# Altium footprint library SE2D v1.0.PcbLib: 3 footprints
Each footprint in its own frame and in the unit in brackets; x right, y up, seen from the top. Pads: shape width x height; smd on the part's side, far side on the other; paste and mask are expansions set on the pad; w line width, h text height; cw(c..) or ccw(c..) is an arc to the next point about the centre after c.
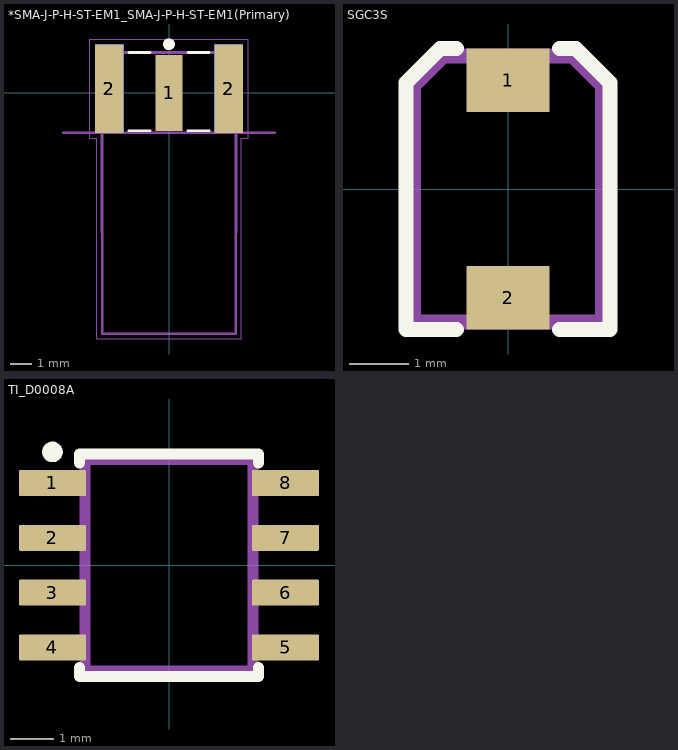
[diagram p0: the footprints below, top view; thin cyan lines are the x and y axes]

## *SMA-J-P-H-ST-EM1_SMA-J-P-H-ST-EM1(Primary) [mm]
pads (5):
  rect 1.27x3.6 smd: 1(0,0)
  rect 1.35x4.2 smd: 2(-2.825,0.2) 2(2.825,0.2)
  rect 1.35x4.2 smd far side: 2(-2.825,0.2) 2(2.825,0.2)
Top Overlay:
  circle w0.28: c0,2.3 r0.14
  lines w0.127: -1.9,-1.8 -0.9,-1.8 ; -1.9,1.91 -0.9,1.91 ; 0.9,-1.8 1.9,-1.8 ; 0.9,1.91 1.9,1.91
Component Bodies:
  lines w0.127: -3.175,-1.9 -3.165,-11.42 ; -3.175,-1.9 -5,-1.9 -3.175,-1.9 ; -3.175,-1.9 3.175,-1.9 ; -3.175,-1.9 -3.175,1.91 ; -3.175,-1.9 -3.165,-11.42 ; -3.175,-1.9 3.175,-1.9 ; -3.175,-1.9 -3.175,1.91 ; -3.175,1.91 3.175,1.91 ; -3.175,1.91 3.175,1.91 ; -3.165,-11.42 3.165,-11.42 ; -3.165,-11.42 3.165,-11.42 ; 3.165,-11.42 3.175,-1.9 ; 3.165,-11.42 3.175,-1.9 ; 3.175,-1.9 5,-1.9 3.175,-1.9 ; 3.175,-1.9 3.175,1.91 ; 3.175,-1.9 3.175,1.91
  text "PCB EDGE" at 4.304,-1.952 h1.88
  text "BOARD THICKNESS: 1.57 MM" at 4.101,1.15 h1.88
  text "PCB EDGE" at 4.304,-1.952 h1.88
  text "BOARD THICKNESS: 1.57 MM" at 4.101,1.15 h1.88
Courtyard:
  lines w0.05: -3.75,-2.15 -3.425,-2.15 -3.425,-11.67 3.425,-11.67 3.425,-2.15 3.75,-2.15 3.75,2.55 -3.75,2.55 -3.75,-2.15
3D body "SMA-J-P-H-ST-EM1.stp": height 3.77, standoff -2.58, extent -3.2,-11.445 3.15,1.885

## SGC3S [mm] "Sprague-Goodman SGC3S Series Trimmer Cap"
height 1.5
pads (2):
  rect 1.4x1.075 smd: 1(0,1.837) 2(0,-1.837)
Top Overlay:
  lines w0.254: -0.873,-2.377 -1.727,-2.377 -1.727,1.798 -1.148,2.377 -0.873,2.377 ; 0.873,-2.377 1.727,-2.377 1.727,1.798 1.148,2.377 0.873,2.377
Component Bodies:
  lines w0.254: -1.6,-2.25 1.6,-2.25 1.6,1.75 1.1,2.25 -1.1,2.25 -1.6,1.75 -1.6,-2.25
3D body: height 0.87, standoff 0, extent -1.6,-2.25 1.6,2.25
3D body: height 1.5, standoff 0, extent -1.538,-1.547 1.55,1.547

## TI_D0008A [mm] "SOIC-8, 3.9x4.9mm (TI D0008A)"
height 1.75
pads (8):
  rrect8% 1.55x0.6 smd: 1(-2.7,1.905) 2(-2.7,0.635) 3(-2.7,-0.635) 4(-2.7,-1.905) 5(2.7,-1.905) 6(2.7,-0.635) 7(2.7,0.635) 8(2.7,1.905)
Top Overlay:
  circle w0.254: c-2.7,2.625 r0.112
  lines w0.254: -2.077,-2.373 -2.077,-2.577 2.077,-2.577 2.077,-2.373 ; -2.077,2.373 -2.077,2.577 2.077,2.577 2.077,2.373
Component Bodies:
  lines w0.254: -1.95,-2.45 -1.95,2.45 1.95,2.45 1.95,-2.45 -1.95,-2.45
3D body: height 1.75, standoff 0.1, extent -1.95,-2.45 1.95,2.45